# Altium schematic symbol library PAM8406DR.SchLib: 1 symbol
Pins are listed as number, name and electrical type; pins without a type are passive.

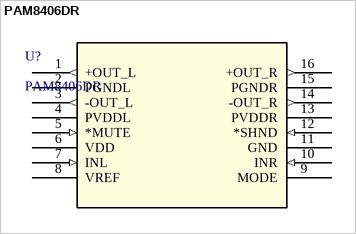
[diagram p0: symbol PAM8406DR]

## PAM8406DR
designator U?
Description; Manufacturer_Name: Diodes Inc; Copyright: Copyright (C) 2025 Ultra Librarian. All rights reserved.; Manufacturer_Part_Number: PAM8406DR; RefDes: RefDes; Type: Type
footprint SO-16_PAM8406_DIO
pins: 1 +OUT_L (out), 2 PGNDL (power), 3 -OUT_L (out), 4 PVDDL (power), 5 *MUTE (in), 6 VDD (power), 7 INL (in), 8 VREF (power), 9 MODE, 10 INR (in), 11 GND (power), 12 *SHND (in), 13 PVDDR (power), 14 -OUT_R (out), 15 PGNDR (power), 16 +OUT_R (out)